# EAGLE library part 66200821022 (library Wuerth_Elektronik_eiCan_08_Micro_Power_Connectors)
WR-MPC3 3.00mm Male Dual Row Angled Header with Plastic Pegs, 8 Pins
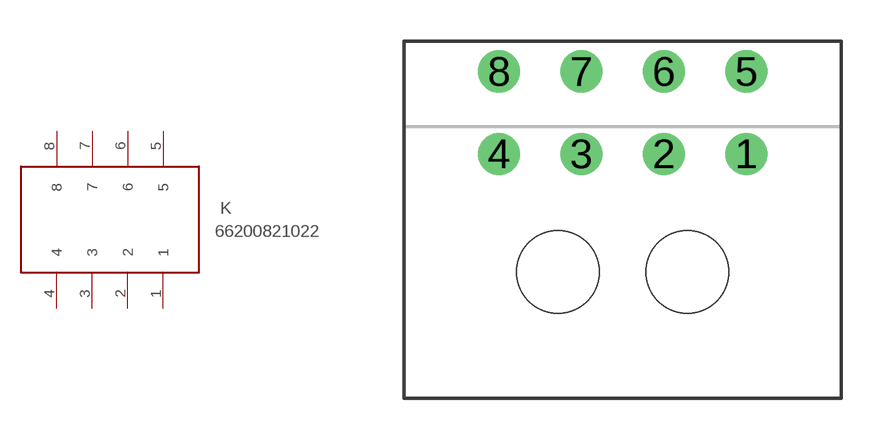
[diagram p31: symbol with the pads of 66200821022; footprint 66200821022]

Designator prefix K

## 66200821022  [66200821022]
1  1
2  2
3  3
4  4
5  5
6  6
7  7
8  8

## Footprint 66200821022 (pad centres in mm)
WR-MPC3 3.00mm Male Dual Row Angled Header with Plastic Pegs, 8 Pins
drill 1.02 round: 1 0,-1.5; 2 -3,-1.5; 3 -6,-1.5; 4 -9,-1.5; 5 0,1.5; 6 -3,1.5; 7 -6,1.5; 8 -9,1.5
hole 3 at -2.15,-5.8
hole 3 at -6.85,-5.8